# Altium footprint library PCB - DIODES - LED 1615.PCBLIB: 2 footprints
Each footprint in its own frame and in the unit in brackets; x right, y up, seen from the top. Pads: shape width x height; smd on the part's side, far side on the other; paste and mask are expansions set on the pad; w line width, h text height; cw(c..) or ccw(c..) is an arc to the next point about the centre after c.
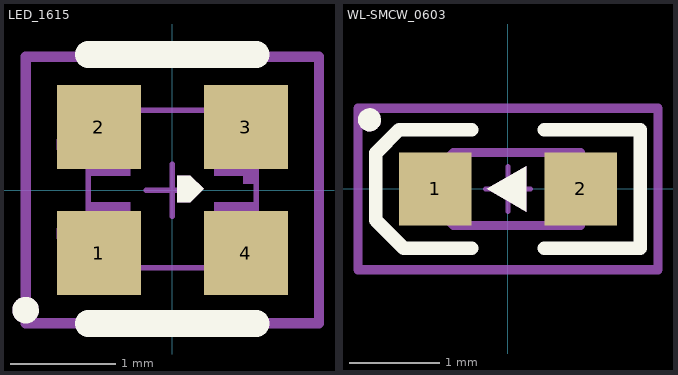
[diagram p0: the footprints below, top view; thin cyan lines are the x and y axes]

## LED_1615 [mm]
pads (4):
  rect 0.8x0.8 smd: 1(-0.7,-0.6) 2(-0.7,0.6) 3(0.7,0.6) 4(0.7,-0.6)
Top Overlay:
  region: 0.3,0.011 0.173,-0.116 0.046,-0.116 0.046,0.138 0.173,0.138
  lines w0.127: -1.34,-1.115 ccw(c-1.397,-1.143) -1.333,-1.143
  lines w0.254: -0.8,-1.27 0.8,-1.27 ; -0.8,1.292 0.8,1.292
Top Assembly:
  region: -0.4,0.736 -0.4,0.136 -0.8,0.136 -0.8,0.736
  region: -0.4,-0.114 -0.4,-0.714 -0.8,-0.714 -0.8,-0.114
  region: 0.8,-0.114 0.8,-0.714 0.4,-0.714 0.4,-0.114
  region: 0.8,0.736 0.8,0.136 0.4,0.136 0.4,0.736
  region: -0.74,-0.739 -0.74,-0.714 -0.775,-0.679 -0.825,-0.679 -0.86,-0.714 -0.86,-0.739 -0.86,-0.764 -0.825,-0.799 -0.775,-0.799 -0.74,-0.764 -0.74,-0.739
  lines w0.051: -0.8,-0.739 0.8,-0.739 0.8,0.761 -0.8,0.761 -0.8,-0.739
  lines w0.127: -1.34,-1.115 ccw(c-1.397,-1.143) -1.333,-1.143
Bottom Assembly:
  region: -1.1,-0.364 -0.35,-0.364 -0.35,-0.464 -1.1,-0.464
  region: -1.1,0.486 -0.35,0.486 -0.35,0.386 -1.1,0.386
  region: 0.35,-0.364 1.1,-0.364 1.1,-0.464 0.35,-0.464
  region: 0.35,0.486 1.1,0.486 1.1,0.386 0.35,0.386
  region: 0.3,0.011 0.173,-0.116 0.046,-0.116 0.046,0.138 0.173,0.138
  region: 0.675,0.061 0.675,0.811 0.775,0.811 0.775,0.061
Top Courtyard:
  lines w0.1: -1.397,-1.27 1.397,-1.27 1.397,1.27 -1.397,1.27 -1.397,-1.27
Top Designator:
  text ".Designator" at -0.762,-0.447 h1
Top Component Center (Mech11):
  lines w0.05: -0.25,0 0.25,0 ; 0,-0.25 0,0.25
3D body "SM0605RGB.stp": height 0.6, standoff 0, extent -0.8,-0.761 0.8,0.739

## WL-SMCW_0603 [mm] "SMD Mono-color Chip LED, body 1.6x0.8mm"
height 0.7
pads (2):
  rect 0.8x0.8 smd: 1(-0.8,0) 2(0.8,0)
Top Overlay:
  region: -0.233,0 0.2,-0.25 0.2,0.25
  lines w0.127: -1.467,0.79 ccw(c-1.524,0.762) -1.46,0.762
  lines w0.15: -0.4,-0.654 -1.146,-0.654 -1.454,-0.346 -1.454,0.396 -1.196,0.654 -0.4,0.654 ; 0.4,-0.654 1.454,-0.654 1.454,0.654 0.4,0.654
Top Assembly:
  region: -0.233,0 0.2,-0.25 0.2,0.25
  lines w0.1: -0.8,-0.2 -0.6,-0.4 0.8,-0.4 0.8,0.4 -0.6,0.4 -0.8,0.2 -0.8,-0.2
  lines w0.127: -1.467,0.79 ccw(c-1.524,0.762) -1.46,0.762
Top Courtyard:
  lines w0.1: -1.651,-0.889 -1.651,0.889 1.651,0.889 1.651,-0.889 -1.651,-0.889
Top Designator:
  text ".Designator" at 1.016,-0.32 h1
Top Component Center (Mech11):
  lines w0.05: -0.25,0 0.25,0 ; 0,-0.25 0,0.25
3D body "WL-SMCW_0603_LED.stp": height 0.7, standoff 0, extent -0.8,-0.4 0.8,0.4